# Altium schematic symbol library 3-647166-2.SchLib: 1 symbol
Pins are listed as number, name and electrical type; pins without a type are passive.

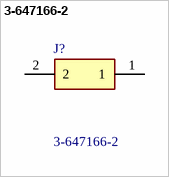
[diagram p0: symbol 3-647166-2]

## 3-647166-2
designator J?
Headers & Wire Housings HDR 1X02P VRT T/H; Manufacturer_Name: TE Connectivity; Geometry.Height: 10.66mm; Mouser Part Number: 571-3-647166-2; Mouser Price/Stock: https://www.mouser.co.uk/ProductDetail/TE-Connectivity/3-647166-2?qs=xsTFCgGnzbJU1qz6Np9kzA%3D%3D; Manufacturer_Part_Number: 3-647166-2; Datasheet Link: https://www.te.com/commerce/DocumentDelivery/DDEController?Action=showdoc&DocId=Customer+Drawing%7F647166%7FR1%7Fpdf%7FEnglish%7FENG_CD_647166_R1.pdf%7F3-647166-2
footprint 36471662
pins: 1, 2